# Altium integrated library Texas Instruments Interface 1394.IntLib: 47 symbols (part 7 of 17)
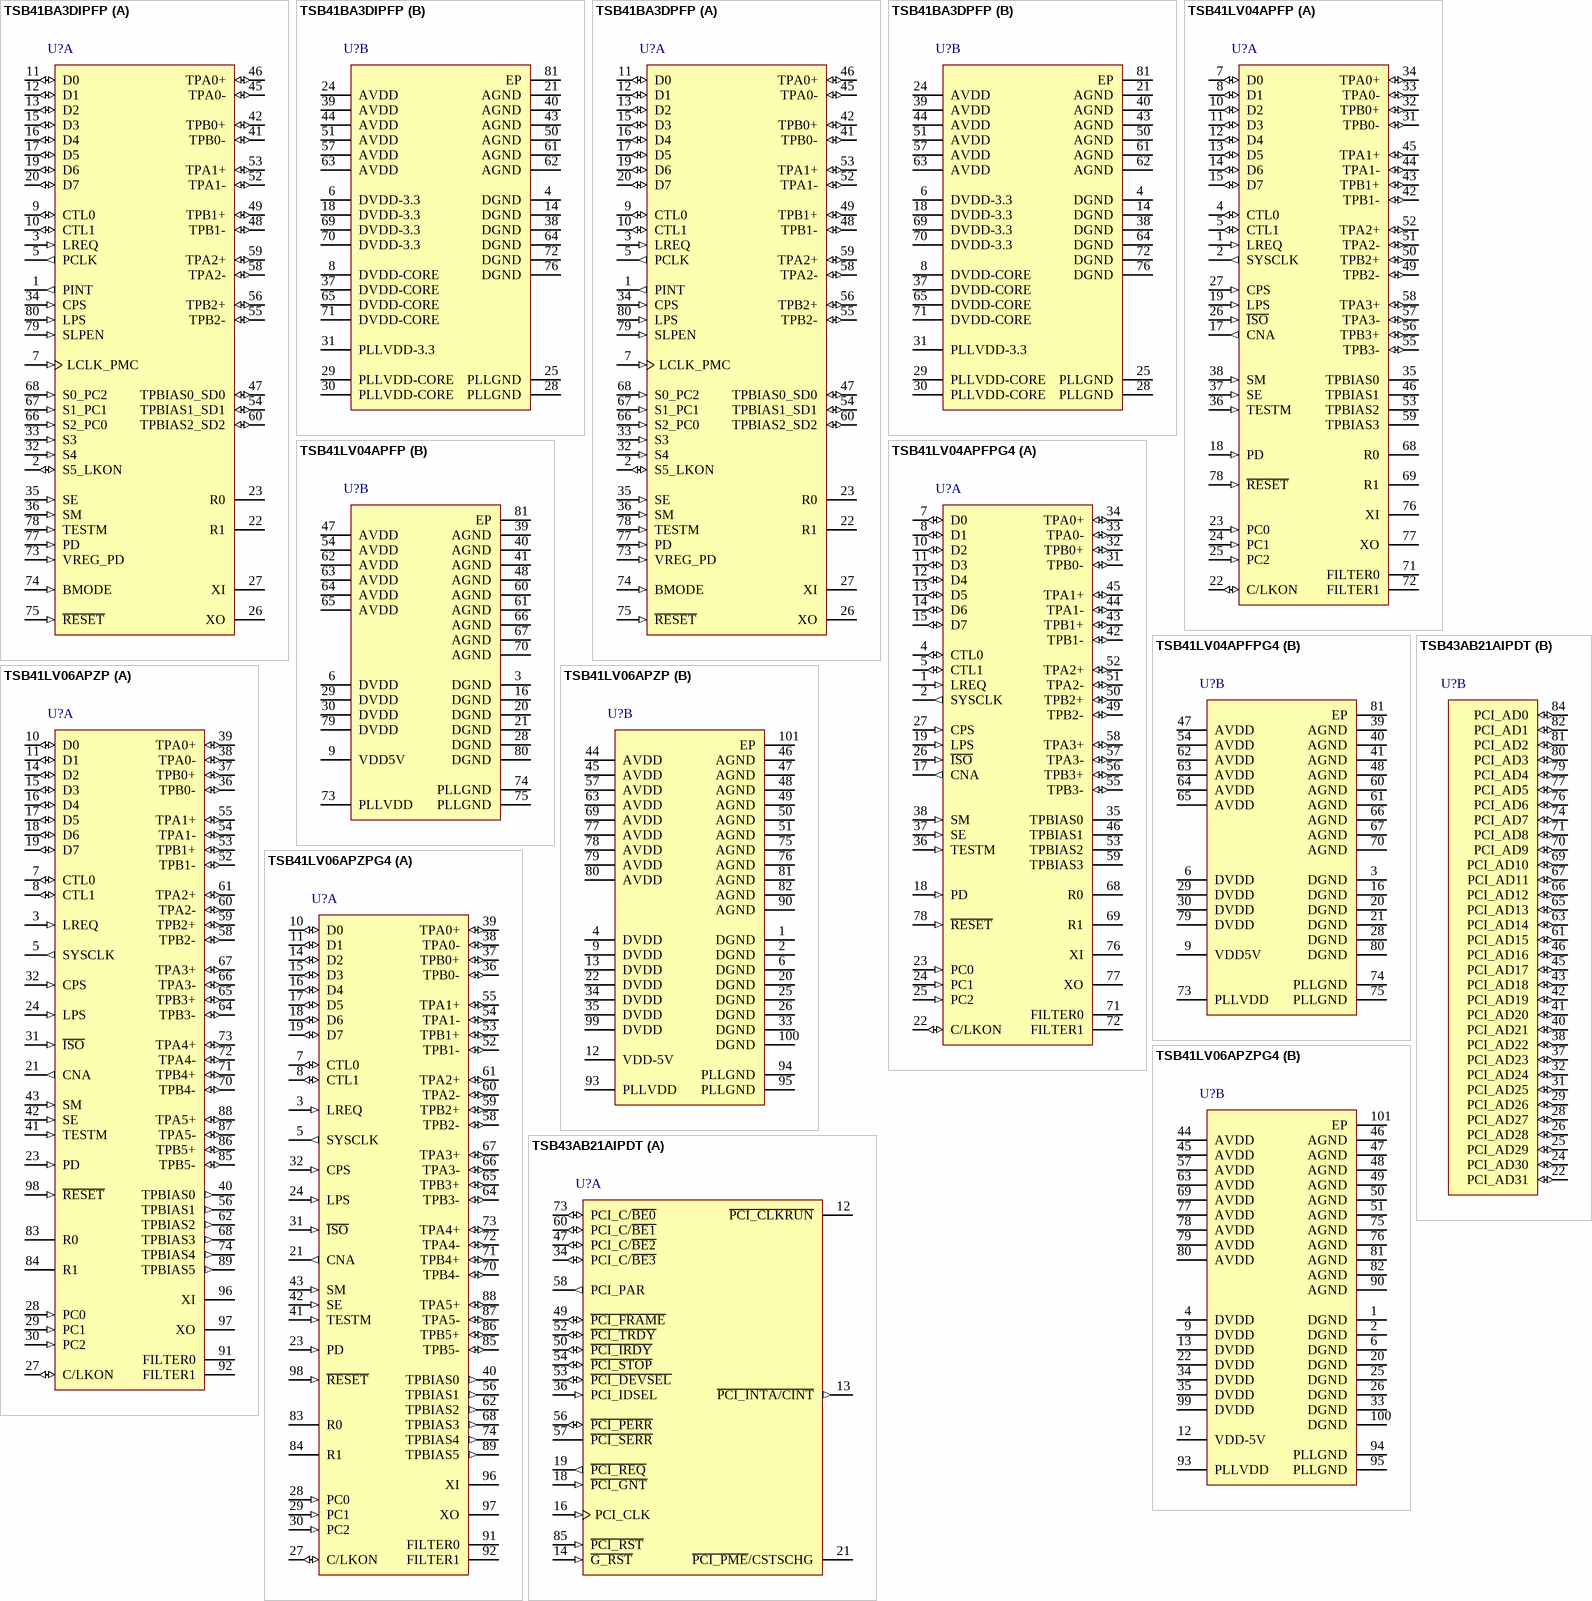
[diagram p17: symbols TSB41BA3DIPFP to TSB43AB21AIPDT]

## TSB41LV06APZP
designator U?
400 Mbps IEEE 1394a Six-Port Cable Transceiver / Arbiter, 3.3V, 100-Pin HTQFP (PZP), Green (RoHS & no Sb/Br); PartNumber: TSB41LV06APZP; Manufacturer: Texas Instruments; SubFamily: 1394 Physical Layer Controller; Speed(Max)(Mbps): 400; Ports: 6; Supply Voltage(s)(V): 3.3; 1394: True; Rating: Catalog; DatasheetVersion: SLLS363A; PackageVersion: revC, Sep-2011; PackageReference: PZP100-4700X4700TP; PackageDescription: 100-Pin Plastic Quad Flat Pack PowerPAD; Mounting Technology: Surface Mount; Eco-Plan: Green (RoHS & no Sb/Br); 1394a: True; Code_JEDEC: MS-026; ComponentLink1Description: Datasheet; ComponentLink1URL: http://www.ti.com/general/docs/lit/getliterature.tsp?genericPartNumber=TSB41LV06A&fileType=pdf; ComponentLink2Description: Package Specification; ComponentLink2URL: http://www.ti.com/litv/pdf/mpqf053b
footprint PZP100-4700X4700TP_N (Thin QFP, 100-Leads, Body 14x14mm, Pitch 0.5mm, Thermal Pad 5.2x5.2mm, IPC Medium Density)
footprint PZP100-4700X4700TP_L (Thin QFP, 100-Leads, Body 14x14mm, Pitch 0.5mm, Thermal Pad 5.2x5.2mm, IPC High Density)
footprint PZP100-4700X4700TP_M (Thin QFP, 100-Leads, Body 14x14mm, Pitch 0.5mm, Thermal Pad 5.2x5.2mm, IPC Low Density)
part A pins: 3 LREQ (in) "LLC request input. The LLC uses this input to initiate a service request to the TSB41LV06A. Bus holder is built into this terminal.", 5 SYSCLK (out) "System clock output. Provides a 49.152 MHz clock signal, synchronized with data transfers, to the LLC.", 7 CTL0 (io) "Control I/Os. These bidirectional signals control communication between the TSB41LV06 and the LLC. Bus holders are built into these terminals.", 8 CTL1 (io) "Control I/Os. These bidirectional signals control communication between the TSB41LV06 and the LLC. Bus holders are built into these terminals.", 10 D0 (io) "Data I/Os. These are bidirectional data signals between the TSB41LV06A and the LLC. Bus holders are built into these terminals.", 11 D1 (io) "Data I/Os. These are bidirectional data signals between the TSB41LV06A and the LLC. Bus holders are built into these terminals.", 14 D2 (io) "Data I/Os. These are bidirectional data signals between the TSB41LV06A and the LLC. Bus holders are built into these terminals.", 15 D3 (io) "Data I/Os. These are bidirectional data signals between the TSB41LV06A and the LLC. Bus holders are built into these terminals.", 16 D4 (io) "Data I/Os. These are bidirectional data signals between the TSB41LV06A and the LLC. Bus holders are built into these terminals.", 17 D5 (io) "Data I/Os. These are bidirectional data signals between the TSB41LV06A and the LLC. Bus holders are built into these terminals.", 18 D6 (io) "Data I/Os. These are bidirectional data signals between the TSB41LV06A and the LLC. Bus holders are built into these terminals.", 19 D7 (io) "Data I/Os. These are bidirectional data signals between the TSB41LV06A and the LLC. Bus holders are built into these terminals.", 21 CNA (out) "Cable not active output. This terminal is asserted high when there are no ports receiving incoming bias voltage.", 23 PD (in) "Power-down input.Digital circuit power terminals. [see datasheet]", 24 LPS (in) "Link power status input. Digital circuit power terminals. [see datasheet]", 27 C/LKON (io) "Bus manager contender programming input and link-on output. Digital circuit power terminals. [see datasheet]", 28 PC0 (in) "Power class programming inputs. On hardware reset, these inputs set the default value of the power-class indicated during self-ID. Programmed is done by tying the terminals high or low. Refer to Table 9 for encoding.", 29 PC1 (in) "Power class programming inputs. On hardware reset, these inputs set the default value of the power-class indicated during self-ID. Programmed is done by tying the terminals high or low. Refer to Table 9 for encoding.", 30 PC2 (in) "Power class programming inputs. On hardware reset, these inputs set the default value of the power-class indicated during self-ID. Programmed is done by tying the terminals high or low. Refer to Table 9 for encoding.", 31 ~{ISO} (in) "Link interface isolation control input. Digital circuit power terminals. [see datasheet]", 32 CPS (in) "Cable power status input. Digital circuit power terminals. [see datasheet]", 36 TPB0- (io) "Twisted-pair cable B differential signal terminals. Digital circuit power terminals. [see datasheet]", 37 TPB0+ (io) "Twisted-pair cable B differential signal terminals.[see datasheet]", 38 TPA0- (io) "Twisted-pair cable A differential signal terminals.[see datasheet]", 39 TPA0+ (io) "Twisted-pair cable A differential signal terminals.[see datasheet]", 40 TPBIAS0 (out) "Twisted-pair bias output. [see datasheet]", 41 TESTM (in) "Test control input. This input is used in manufacturing test of the TSB41LV06A. For normal use this terminal should be tied to VDD.", 42 SE (in) "Test control input.This input is used in manufacturing test of the TSB41LV06A. For normal use this terminal should be tied to GND through a 1-k ohm pulldown resistor.", 43 SM (in) "Test control input. This input is used in manufacturing test of the TSB41LV06A. For normal use this terminal should be tied to GND.", 52 TPB1- (io) "Twisted-pair cable B differential signal terminals.[see datasheet]", 53 TPB1+ (io) "Twisted-pair cable B differential signal terminals. [see datasheet]", 54 TPA1- (io) "Twisted-pair cable A differential signal terminals.[see datasheet]", 55 TPA1+ (io) "Twisted-pair cable A differential signal terminals.[see datasheet]", 56 TPBIAS1 (out) "Twisted-pair bias output.[see datasheet]", 58 TPB2- (io) "Twisted-pair cable B differential signal terminals.[see datasheet]", 59 TPB2+ (io) "Twisted-pair cable B differential signal terminals.[see datasheet]", 60 TPA2- (io) "Twisted-pair cable A differential signal terminals.[see datasheet]", 61 TPA2+ (io) "Twisted-pair cable A differential signal terminals.[see datasheet]", 62 TPBIAS2 (out) "Twisted-pair bias output.[see datasheet]", 64 TPB3- (io) "Twisted-pair cable B differential signal terminals.[see datasheet]", 65 TPB3+ (io) "Twisted-pair cable B differential signal terminals.[see datasheet]", 66 TPA3- (io) "Twisted-pair cable A differential signal terminals.[see datasheet]", 67 TPA3+ (io) "Twisted-pair cable A differential signal terminals.[see datasheet]", 68 TPBIAS3 (out) "Twisted-pair bias output. [see datasheet]", 70 TPB4- (io) "Twisted-pair cable B differential signal terminals.[see datasheet]", 71 TPB4+ (io) "Twisted-pair cable B differential signal terminals. [see datasheet]", 72 TPA4- (io) "Twisted-pair cable A differential signal terminals.[see datasheet]", 73 TPA4+ (io) "Twisted-pair cable A differential signal terminals.[see datasheet]", 74 TPBIAS4 (out) "Twisted-pair bias output.[see datasheet]", 83 R0 "Current setting resistor terminals.[see datasheet]", 84 R1 "Current setting resistor terminals.[see datasheet]", 85 TPB5- (io) "Twisted-pair cable B differential signal terminals.[see datasheet]", 86 TPB5+ (io) "Twisted-pair cable B differential signal terminals. [see datasheet]", 87 TPA5- (io) "Twisted-pair cable A differential signal terminals.[see datasheet]", 88 TPA5+ (io) "Twisted-pair cable A differential signal terminals.[see datasheet]", 89 TPBIAS5 (out) "Twisted-pair bias output.[see datasheet]", 91 FILTER0 "PLL filter terminals. [see datasheet]", 92 FILTER1 "PLL filter terminals. [see datasheet]", 96 XI "Crystal oscillator inputs. [see datasheet]", 97 XO "Crystal oscillator outputs. These terminals connect to a 24.576 MHz parallel resonant fundamental mode crystal.[see datasheet]", 98 ~{RESET} (in) "Logic reset input. Asserting this terminal low resets the internal logic. [see datasheet]"
part B pins: 1 DGND (power) "Digital circuit ground terminals.These terminals should be tied together to the low impedance circuit board ground plane.", 2 DGND (power) "Digital circuit ground terminals.These terminals should be tied together to the low impedance circuit board ground plane.", 4 DVDD (power) "Digital circuit power terminals.Digital circuit power terminals. [see datasheet]", 6 DGND (power) "Digital circuit ground terminals. These terminals should be tied together to the low impedance circuit board ground plane.", 9 DVDD (power) "Digital circuit power terminals.Digital circuit power terminals. [see datasheet]", 12 VDD-5V (power) "5-V VDD terminal.Digital circuit power terminals. [see datasheet]", 13 DVDD (power) "Digital circuit power terminalsDigital circuit power terminals. [see datasheet]", 20 DGND (power) "Digital circuit ground terminals. These terminals should be tied together to the low impedance circuit board ground plane.", 22 DVDD (power) "Digital circuit power terminals. Digital circuit power terminals. [see datasheet]", 25 DGND (power) "Digital circuit ground terminals. These terminals should be tied together to the low impedance circuit board ground plane.", 26 DGND (power) "Digital circuit ground terminals. These terminals should be tied together to the low impedance circuit board ground plane.", 33 DGND (power) "Digital circuit ground terminals. These terminals should be tied together to the low impedance circuit board ground plane.", 34 DVDD (power) "Digital circuit power terminals. Digital circuit power terminals. [see datasheet]", 35 DVDD (power) "Digital circuit power terminals.Digital circuit power terminals. [see datasheet]", 44 AVDD (power) "Analog circuit power terminals.[see datasheet]", 45 AVDD (power) "Analog circuit power terminals.[see datasheet].", 46 AGND (power) "Analog circuit ground terminals. These terminals should be tied together to the low impedance circuit board ground plane.", 47 AGND (power) "Analog circuit ground terminals. These terminals should be tied together to the low impedance circuit board ground plane.", 48 AGND (power) "Analog circuit ground terminals. These terminals should be tied together to the low impedance circuit board ground plane.", 49 AGND (power) "Analog circuit ground terminals. These terminals should be tied together to the low impedance circuit board ground plane.", 50 AGND (power) "Analog circuit ground terminals. These terminals should be tied together to the low impedance circuit board ground plane.", 51 AGND (power) "Analog circuit ground terminals. These terminals should be tied together to the low impedance circuit board ground plane.", 57 AVDD (power) "Analog circuit power terminals.[see datasheet]", 63 AVDD (power) "Analog circuit power terminals.[see datasheet]", 69 AVDD (power) "Analog circuit power terminals.[see datasheet]", 75 AGND (power) "Analog circuit ground terminals. These terminals should be tied together to the low impedance circuit board ground plane.", 76 AGND (power) "Analog circuit ground terminals. These terminals should be tied together to the low impedance circuit board ground plane.", 77 AVDD (power) "Analog circuit power terminals.[see datasheet]", 78 AVDD (power) "Analog circuit power terminals. [see datasheet]", 79 AVDD (power) "Analog circuit power terminals.[see datasheet]", 80 AVDD (power) "Analog circuit power terminals. [see datasheet]", 81 AGND (power) "Analog circuit ground terminals. These terminals should be tied together to the low impedance circuit board ground plane.", 82 AGND (power) "Analog circuit ground terminals. These terminals should be tied together to the low impedance circuit board ground plane.", 90 AGND (power) "Analog circuit ground terminals. These terminals should be tied together to the low impedance circuit board ground plane.", 93 PLLVDD (power) "PLL circuit power terminals. [see datasheet]", 94 PLLGND (power) "PLL circuit ground terminals. These terminals should be tied together to the low impedance circuit board ground plane.", 95 PLLGND (power) "PLL circuit ground terminals. These terminals should be tied together to the low impedance circuit board ground plane.", 99 DVDD (power) "Digital circuit power terminals.[see datasheet]", 100 DGND (power) "Digital circuit ground terminals. These terminals should be tied together to the low impedance circuit board ground plane.", 101 EP (power) "Exposed Thermal Pad."

## TSB41LV06APZPG4
designator U?
400 Mbps IEEE 1394a Six-Port Cable Transceiver / Arbiter, 3.3V, 100-Pin HTQFP (PZP), Green (RoHS & no Sb/Br); PartNumber: TSB41LV06APZPG4; Manufacturer: Texas Instruments; SubFamily: 1394 Physical Layer Controller; Speed(Max)(Mbps): 400; Ports: 6; Supply Voltage(s)(V): 3.3; 1394: True; Rating: Catalog; DatasheetVersion: SLLS363A; PackageVersion: revC, Sep-2011; PackageReference: PZP100-4700X4700TP; PackageDescription: 100-Pin Plastic Quad Flat Pack PowerPAD; Mounting Technology: Surface Mount; Eco-Plan: Green (RoHS & no Sb/Br); 1394a: True; Code_JEDEC: MS-026; ComponentLink1Description: Datasheet; ComponentLink1URL: http://www.ti.com/general/docs/lit/getliterature.tsp?genericPartNumber=TSB41LV06A&fileType=pdf; ComponentLink2Description: Package Specification; ComponentLink2URL: http://www.ti.com/litv/pdf/mpqf053b
footprint PZP100-4700X4700TP_N (Thin QFP, 100-Leads, Body 14x14mm, Pitch 0.5mm, Thermal Pad 5.2x5.2mm, IPC Medium Density)
footprint PZP100-4700X4700TP_L (Thin QFP, 100-Leads, Body 14x14mm, Pitch 0.5mm, Thermal Pad 5.2x5.2mm, IPC High Density)
footprint PZP100-4700X4700TP_M (Thin QFP, 100-Leads, Body 14x14mm, Pitch 0.5mm, Thermal Pad 5.2x5.2mm, IPC Low Density)
part A pins: 3 LREQ (in) "LLC request input. The LLC uses this input to initiate a service request to the TSB41LV06A. Bus holder is built into this terminal.", 5 SYSCLK (out) "System clock output. Provides a 49.152 MHz clock signal, synchronized with data transfers, to the LLC.", 7 CTL0 (io) "Control I/Os. These bidirectional signals control communication between the TSB41LV06 and the LLC. Bus holders are built into these terminals.", 8 CTL1 (io) "Control I/Os. These bidirectional signals control communication between the TSB41LV06 and the LLC. Bus holders are built into these terminals.", 10 D0 (io) "Data I/Os. These are bidirectional data signals between the TSB41LV06A and the LLC. Bus holders are built into these terminals.", 11 D1 (io) "Data I/Os. These are bidirectional data signals between the TSB41LV06A and the LLC. Bus holders are built into these terminals.", 14 D2 (io) "Data I/Os. These are bidirectional data signals between the TSB41LV06A and the LLC. Bus holders are built into these terminals.", 15 D3 (io) "Data I/Os. These are bidirectional data signals between the TSB41LV06A and the LLC. Bus holders are built into these terminals.", 16 D4 (io) "Data I/Os. These are bidirectional data signals between the TSB41LV06A and the LLC. Bus holders are built into these terminals.", 17 D5 (io) "Data I/Os. These are bidirectional data signals between the TSB41LV06A and the LLC. Bus holders are built into these terminals.", 18 D6 (io) "Data I/Os. These are bidirectional data signals between the TSB41LV06A and the LLC. Bus holders are built into these terminals.", 19 D7 (io) "Data I/Os. These are bidirectional data signals between the TSB41LV06A and the LLC. Bus holders are built into these terminals.", 21 CNA (out) "Cable not active output. This terminal is asserted high when there are no ports receiving incoming bias voltage.", 23 PD (in) "Power-down input.Digital circuit power terminals. [see datasheet]", 24 LPS (in) "Link power status input. Digital circuit power terminals. [see datasheet]", 27 C/LKON (io) "Bus manager contender programming input and link-on output. Digital circuit power terminals. [see datasheet]", 28 PC0 (in) "Power class programming inputs. On hardware reset, these inputs set the default value of the power-class indicated during self-ID. Programmed is done by tying the terminals high or low. Refer to Table 9 for encoding.", 29 PC1 (in) "Power class programming inputs. On hardware reset, these inputs set the default value of the power-class indicated during self-ID. Programmed is done by tying the terminals high or low. Refer to Table 9 for encoding.", 30 PC2 (in) "Power class programming inputs. On hardware reset, these inputs set the default value of the power-class indicated during self-ID. Programmed is done by tying the terminals high or low. Refer to Table 9 for encoding.", 31 ~{ISO} (in) "Link interface isolation control input. Digital circuit power terminals. [see datasheet]", 32 CPS (in) "Cable power status input. Digital circuit power terminals. [see datasheet]", 36 TPB0- (io) "Twisted-pair cable B differential signal terminals. Digital circuit power terminals. [see datasheet]", 37 TPB0+ (io) "Twisted-pair cable B differential signal terminals.[see datasheet]", 38 TPA0- (io) "Twisted-pair cable A differential signal terminals.[see datasheet]", 39 TPA0+ (io) "Twisted-pair cable A differential signal terminals.[see datasheet]", 40 TPBIAS0 (out) "Twisted-pair bias output. [see datasheet]", 41 TESTM (in) "Test control input. This input is used in manufacturing test of the TSB41LV06A. For normal use this terminal should be tied to VDD.", 42 SE (in) "Test control input.This input is used in manufacturing test of the TSB41LV06A. For normal use this terminal should be tied to GND through a 1-k ohm pulldown resistor.", 43 SM (in) "Test control input. This input is used in manufacturing test of the TSB41LV06A. For normal use this terminal should be tied to GND.", 52 TPB1- (io) "Twisted-pair cable B differential signal terminals.[see datasheet]", 53 TPB1+ (io) "Twisted-pair cable B differential signal terminals. [see datasheet]", 54 TPA1- (io) "Twisted-pair cable A differential signal terminals.[see datasheet]", 55 TPA1+ (io) "Twisted-pair cable A differential signal terminals.[see datasheet]", 56 TPBIAS1 (out) "Twisted-pair bias output.[see datasheet]", 58 TPB2- (io) "Twisted-pair cable B differential signal terminals.[see datasheet]", 59 TPB2+ (io) "Twisted-pair cable B differential signal terminals.[see datasheet]", 60 TPA2- (io) "Twisted-pair cable A differential signal terminals.[see datasheet]", 61 TPA2+ (io) "Twisted-pair cable A differential signal terminals.[see datasheet]", 62 TPBIAS2 (out) "Twisted-pair bias output.[see datasheet]", 64 TPB3- (io) "Twisted-pair cable B differential signal terminals.[see datasheet]", 65 TPB3+ (io) "Twisted-pair cable B differential signal terminals.[see datasheet]", 66 TPA3- (io) "Twisted-pair cable A differential signal terminals.[see datasheet]", 67 TPA3+ (io) "Twisted-pair cable A differential signal terminals.[see datasheet]", 68 TPBIAS3 (out) "Twisted-pair bias output. [see datasheet]", 70 TPB4- (io) "Twisted-pair cable B differential signal terminals.[see datasheet]", 71 TPB4+ (io) "Twisted-pair cable B differential signal terminals. [see datasheet]", 72 TPA4- (io) "Twisted-pair cable A differential signal terminals.[see datasheet]", 73 TPA4+ (io) "Twisted-pair cable A differential signal terminals.[see datasheet]", 74 TPBIAS4 (out) "Twisted-pair bias output.[see datasheet]", 83 R0 "Current setting resistor terminals.[see datasheet]", 84 R1 "Current setting resistor terminals.[see datasheet]", 85 TPB5- (io) "Twisted-pair cable B differential signal terminals.[see datasheet]", 86 TPB5+ (io) "Twisted-pair cable B differential signal terminals. [see datasheet]", 87 TPA5- (io) "Twisted-pair cable A differential signal terminals.[see datasheet]", 88 TPA5+ (io) "Twisted-pair cable A differential signal terminals.[see datasheet]", 89 TPBIAS5 (out) "Twisted-pair bias output.[see datasheet]", 91 FILTER0 "PLL filter terminals. [see datasheet]", 92 FILTER1 "PLL filter terminals. [see datasheet]", 96 XI "Crystal oscillator inputs. [see datasheet]", 97 XO "Crystal oscillator outputs. These terminals connect to a 24.576 MHz parallel resonant fundamental mode crystal.[see datasheet]", 98 ~{RESET} (in) "Logic reset input. Asserting this terminal low resets the internal logic. [see datasheet]"
part B pins: 1 DGND (power) "Digital circuit ground terminals.These terminals should be tied together to the low impedance circuit board ground plane.", 2 DGND (power) "Digital circuit ground terminals.These terminals should be tied together to the low impedance circuit board ground plane.", 4 DVDD (power) "Digital circuit power terminals.Digital circuit power terminals. [see datasheet]", 6 DGND (power) "Digital circuit ground terminals. These terminals should be tied together to the low impedance circuit board ground plane.", 9 DVDD (power) "Digital circuit power terminals.Digital circuit power terminals. [see datasheet]", 12 VDD-5V (power) "5-V VDD terminal.Digital circuit power terminals. [see datasheet]", 13 DVDD (power) "Digital circuit power terminalsDigital circuit power terminals. [see datasheet]", 20 DGND (power) "Digital circuit ground terminals. These terminals should be tied together to the low impedance circuit board ground plane.", 22 DVDD (power) "Digital circuit power terminals. Digital circuit power terminals. [see datasheet]", 25 DGND (power) "Digital circuit ground terminals. These terminals should be tied together to the low impedance circuit board ground plane.", 26 DGND (power) "Digital circuit ground terminals. These terminals should be tied together to the low impedance circuit board ground plane.", 33 DGND (power) "Digital circuit ground terminals. These terminals should be tied together to the low impedance circuit board ground plane.", 34 DVDD (power) "Digital circuit power terminals. Digital circuit power terminals. [see datasheet]", 35 DVDD (power) "Digital circuit power terminals.Digital circuit power terminals. [see datasheet]", 44 AVDD (power) "Analog circuit power terminals.[see datasheet]", 45 AVDD (power) "Analog circuit power terminals.[see datasheet].", 46 AGND (power) "Analog circuit ground terminals. These terminals should be tied together to the low impedance circuit board ground plane.", 47 AGND (power) "Analog circuit ground terminals. These terminals should be tied together to the low impedance circuit board ground plane.", 48 AGND (power) "Analog circuit ground terminals. These terminals should be tied together to the low impedance circuit board ground plane.", 49 AGND (power) "Analog circuit ground terminals. These terminals should be tied together to the low impedance circuit board ground plane.", 50 AGND (power) "Analog circuit ground terminals. These terminals should be tied together to the low impedance circuit board ground plane.", 51 AGND (power) "Analog circuit ground terminals. These terminals should be tied together to the low impedance circuit board ground plane.", 57 AVDD (power) "Analog circuit power terminals.[see datasheet]", 63 AVDD (power) "Analog circuit power terminals.[see datasheet]", 69 AVDD (power) "Analog circuit power terminals.[see datasheet]", 75 AGND (power) "Analog circuit ground terminals. These terminals should be tied together to the low impedance circuit board ground plane.", 76 AGND (power) "Analog circuit ground terminals. These terminals should be tied together to the low impedance circuit board ground plane.", 77 AVDD (power) "Analog circuit power terminals.[see datasheet]", 78 AVDD (power) "Analog circuit power terminals. [see datasheet]", 79 AVDD (power) "Analog circuit power terminals.[see datasheet]", 80 AVDD (power) "Analog circuit power terminals. [see datasheet]", 81 AGND (power) "Analog circuit ground terminals. These terminals should be tied together to the low impedance circuit board ground plane.", 82 AGND (power) "Analog circuit ground terminals. These terminals should be tied together to the low impedance circuit board ground plane.", 90 AGND (power) "Analog circuit ground terminals. These terminals should be tied together to the low impedance circuit board ground plane.", 93 PLLVDD (power) "PLL circuit power terminals. [see datasheet]", 94 PLLGND (power) "PLL circuit ground terminals. These terminals should be tied together to the low impedance circuit board ground plane.", 95 PLLGND (power) "PLL circuit ground terminals. These terminals should be tied together to the low impedance circuit board ground plane.", 99 DVDD (power) "Digital circuit power terminals.[see datasheet]", 100 DGND (power) "Digital circuit ground terminals. These terminals should be tied together to the low impedance circuit board ground plane.", 101 EP (power) "Exposed Thermal Pad."

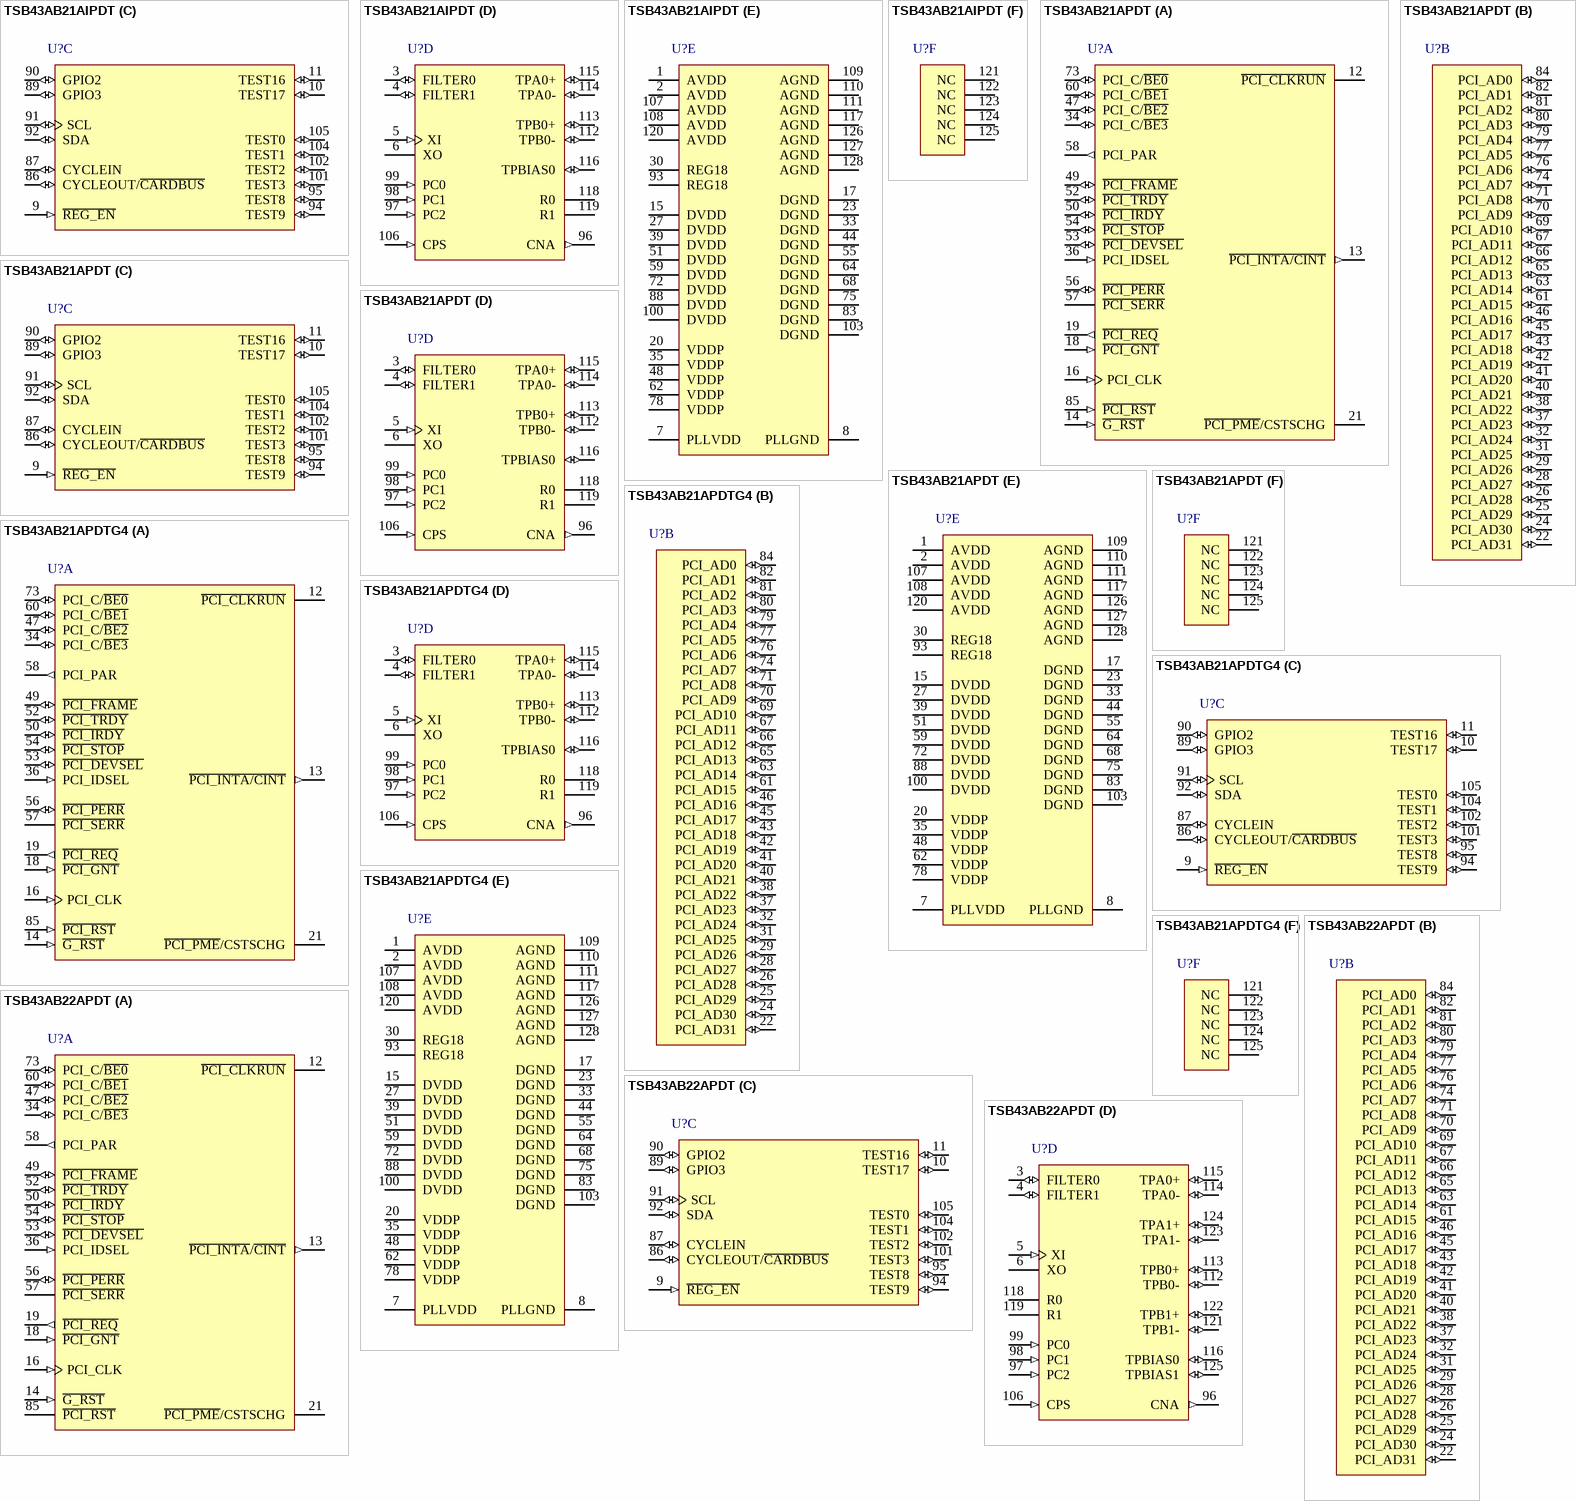
[diagram p4: symbols TSB43AB21AIPDT to TSB43AB22APDT]

## TSB43AB21AIPDT
designator U?
Integrated 1394a-2000 OHCI PHY/Link-Layer Controller, -40 to 85 degC, 128-Pin TQFP (PDT); PartNumber: TSB43AB21AIPDT; Manufacturer: Texas Instruments; SubFamily: 1394 Integrated Device; Speed(Max)(Mbps): 400; FIFO(kb): 9; 1394a: TRUE; Rating: Catalog; DatasheetVersion: SLLS521A; PackageVersion: revA, Nov-1995; PackageReference: PDT128; PackageDescription: 128-Pin Plastic Quad Flat Pack, 14 x 14 mm Body, 0.4 mm Pitch; Mounting Technology: Surface Mount; Operating Temperature Range(C): 0 to 70; ComponentLink1Description: Datasheet; ComponentLink1URL: http://www.ti.com/general/docs/lit/getliterature.tsp?genericPartNumber=TSB43AB21A&fileType=pdf; ComponentLink2Description: Package Specification; ComponentLink2URL: http://www.ti.com/litv/pdf/mpqf013
footprint TI-PDT128_N (Thin QFP, 128-Leads, Body 14x14mm, Pitch 0.4mm, IPC Medium Density)
footprint TI-PDT128_L (Thin QFP, 128-Leads, Body 14x14mm, Pitch 0.4mm, IPC High Density)
footprint TI-PDT128_M (Thin QFP, 128-Leads, Body 14x14mm, Pitch 0.4mm, IPC Low Density)
part A pins: 12 ~{PCI_CLKRUN} (oc) "Clock run. This terminal provides clock control through the C\L\K\R\U\N\ protocol. [see datasheet]", 13 ~{PCI_INTA/CINT} (out) "Interrupt signal. This output indicates interrupts from the TSB43AB21A device to the host. [see datasheet]", 14 ~{G_RST} (in) "Global power reset. This reset brings all of the TSB43AB21A internal registers to their default states, including those registers not reset by P\C\I\_\R\S\T\. [see datasheet]", 16 PCI_CLK (in) "PCI bus clock. Provides timing for all transactions on the PCI bus. All PCI signals are sampled at the rising edge of PCI_CLK.", 18 ~{PCI_GNT} (in) "PCI bus grant. This signal is driven by the PCI bus arbiter to grant the TSB43AB21A device access to the PCI bus after the current data transaction has completed. [see datasheet]", 19 ~{PCI_REQ} (out) "PCI bus request. Asserted by the TSB43AB21A device to request access to the bus as an initiator. [see datasheet]", 21 ~{PCI_PME}/CSTSCHG (oc) "Power management event or card status change. This terminal indicates wake events to the host. [see datasheet]", 34 PCI_C/~{BE3} (io) "PCI bus commands and byte enables. The command and byte enable signals are multiplexed on the same PCI terminals. [see datasheet]", 36 PCI_IDSEL (in) "Initialization device select. PCI_IDSEL selects the TSB43AB21A device during configuration space accesses. [see datasheet]", 47 PCI_C/~{BE2} (io) "PCI bus commands and byte enables. The command and byte enable signals are multiplexed on the same PCI terminals. [see datasheet]", 49 ~{PCI_FRAME} (io) "PCI cycle frame. This signal is driven by the initiator of a PCI bus cycle. [see datasheet]", 50 ~{PCI_IRDY} (io) "PCI initiator ready. P\C\I\_\I\R\D\Y\ indicates the ability of the PCI bus initiator to complete the current data phase of the transaction. [see datasheet]", 52 ~{PCI_TRDY} (io) "PCI target ready. PCI_TRDY indicates the ability of the PCI bus target to complete the current data phase of the transaction. [see datasheet]", 53 ~{PCI_DEVSEL} (io) "PCI device select. The TSB43AB21A device asserts this signal to claim a PCI cycle as the target device. [see datasheet]", 54 ~{PCI_STOP} (io) "PCI cycle stop signal. This signal is driven by a PCI target to request the initiator to stop the current PCI bus transaction. [see datasheet]", 56 ~{PCI_PERR} (io) "PCI parity error indicator. [see datasheet]", 57 ~{PCI_SERR} (oc) "PCI system error. When bit 8 (SERR_ENB) in the command register at offset 04h in the PCI configuration space (see Section 3. [see datasheet]", 58 PCI_PAR (out) "PCI parity. In all PCI bus read and write cycles, the TSB43AB21A device calculates even parity across the PCI_AD and PCI_C/BE buses. [see datasheet]", 60 PCI_C/~{BE1} (io) "PCI bus commands and byte enables. The command and byte enable signals are multiplexed on the same PCI terminals. [see datasheet]", 73 PCI_C/~{BE0} (io) "PCI bus commands and byte enables. The command and byte enable signals are multiplexed on the same PCI terminals. [see datasheet]", 85 ~{PCI_RST} (in) "PCI reset. [see datasheet]"
part B pins: 22 PCI_AD31 (io) "PCI address/data bus. These signals make up the multiplexed PCI address and data bus on the PCI interface. [see datasheet]", 24 PCI_AD30 (io) "PCI address/data bus. These signals make up the multiplexed PCI address and data bus on the PCI interface. [see datasheet]", 25 PCI_AD29 (io) "PCI address/data bus. These signals make up the multiplexed PCI address and data bus on the PCI interface. [see datasheet]", 26 PCI_AD28 (io) "PCI address/data bus. These signals make up the multiplexed PCI address and data bus on the PCI interface. [see datasheet]", 28 PCI_AD27 (io) "PCI address/data bus. These signals make up the multiplexed PCI address and data bus on the PCI interface. [see datasheet]", 29 PCI_AD26 (io) "PCI address/data bus. These signals make up the multiplexed PCI address and data bus on the PCI interface. [see datasheet]", 31 PCI_AD25 (io) "PCI address/data bus. These signals make up the multiplexed PCI address and data bus on the PCI interface. [see datasheet]", 32 PCI_AD24 (io) "PCI address/data bus. These signals make up the multiplexed PCI address and data bus on the PCI interface. [see datasheet]", 37 PCI_AD23 (io) "PCI address/data bus. These signals make up the multiplexed PCI address and data bus on the PCI interface. [see datasheet]", 38 PCI_AD22 (io) "PCI address/data bus. These signals make up the multiplexed PCI address and data bus on the PCI interface. [see datasheet]", 40 PCI_AD21 (io) "PCI address/data bus. These signals make up the multiplexed PCI address and data bus on the PCI interface. [see datasheet]", 41 PCI_AD20 (io) "PCI address/data bus. These signals make up the multiplexed PCI address and data bus on the PCI interface. [see datasheet]", 42 PCI_AD19 (io) "PCI address/data bus. These signals make up the multiplexed PCI address and data bus on the PCI interface. [see datasheet]", 43 PCI_AD18 (io) "PCI address/data bus. These signals make up the multiplexed PCI address and data bus on the PCI interface. [see datasheet]", 45 PCI_AD17 (io) "PCI address/data bus. These signals make up the multiplexed PCI address and data bus on the PCI interface. [see datasheet]", 46 PCI_AD16 (io) "PCI address/data bus. These signals make up the multiplexed PCI address and data bus on the PCI interface. [see datasheet]", 61 PCI_AD15 (io) "PCI address/data bus. These signals make up the multiplexed PCI address and data bus on the PCI interface. [see datasheet]", 63 PCI_AD14 (io) "PCI address/data bus. These signals make up the multiplexed PCI address and data bus on the PCI interface. [see datasheet]", 65 PCI_AD13 (io) "PCI address/data bus. These signals make up the multiplexed PCI address and data bus on the PCI interface. [see datasheet]", 66 PCI_AD12 (io) "PCI address/data bus. These signals make up the multiplexed PCI address and data bus on the PCI interface. [see datasheet]", 67 PCI_AD11 (io) "PCI address/data bus. These signals make up the multiplexed PCI address and data bus on the PCI interface. [see datasheet]", 69 PCI_AD10 (io) "PCI address/data bus. These signals make up the multiplexed PCI address and data bus on the PCI interface. [see datasheet]", 70 PCI_AD9 (io) "PCI address/data bus. These signals make up the multiplexed PCI address and data bus on the PCI interface. [see datasheet]", 71 PCI_AD8 (io) "PCI address/data bus. These signals make up the multiplexed PCI address and data bus on the PCI interface. [see datasheet]", 74 PCI_AD7 (io) "PCI address/data bus. These signals make up the multiplexed PCI address and data bus on the PCI interface. [see datasheet]", 76 PCI_AD6 (io) "PCI address/data bus. These signals make up the multiplexed PCI address and data bus on the PCI interface. [see datasheet]", 77 PCI_AD5 (io) "PCI address/data bus. These signals make up the multiplexed PCI address and data bus on the PCI interface. [see datasheet]", 79 PCI_AD4 (io) "PCI address/data bus. These signals make up the multiplexed PCI address and data bus on the PCI interface. [see datasheet]", 80 PCI_AD3 (io) "PCI address/data bus. These signals make up the multiplexed PCI address and data bus on the PCI interface. [see datasheet]", 81 PCI_AD2 (io) "PCI address/data bus. These signals make up the multiplexed PCI address and data bus on the PCI interface. [see datasheet]", 82 PCI_AD1 (io) "PCI address/data bus. These signals make up the multiplexed PCI address and data bus on the PCI interface. [see datasheet]", 84 PCI_AD0 (io) "PCI address/data bus. These signals make up the multiplexed PCI address and data bus on the PCI interface. [see datasheet]"
part C pins: 9 ~{REG_EN} (in) "Regulator enable. This terminal must be tied to ground to enable the internal voltage regulator. When using a single 3. [see datasheet]", 10 TEST17 (io) "Terminals TEST[9, 8, 3, 2, 1, 0] are used for factory test of the TSB43AB21A device and must be connected to ground for normal operation.Terminal TEST[17:16] must be pulled to VDD. [see datasheet]", 11 TEST16 (io) "Terminals TEST[9, 8, 3, 2, 1, 0] are used for factory test of the TSB43AB21A device and must be connected to ground for normal operation.Terminal TEST[17:16] must be pulled to VDD. [see datasheet]", 86 CYCLEOUT/~{CARDBUS} (io) "This terminal is sampled when G\_\R\S\T\ is asserted and is used to select between PC Card and non-PC Card implementations. [see datasheet]", 87 CYCLEIN (io) "The CYCLEIN terminal allows an external 8-kHz clock to be used as a cycle timer for synchronization with other system devices. [see datasheet]", 89 GPIO3 (io) "General-purpose I/O [3]. This terminal defaults as an input and if it is not implemented, it is recommended that it be pulled low to ground with a 220-ohm resistor.", 90 GPIO2 (io) "General-purpose I/O [2]. This terminal defaults as an input and if it is not implemented, it is recommended that it be pulled low to ground with a 220-ohm resistor.", 91 SCL (io) "Serial clock. This terminal provides the serial clock signaling and is implemented as open-drain. [see datasheet]", 92 SDA (io) "Serial data. At P\C\I\_\R\S\T\, the SDA signal is sampled to determine if a two-wire serial ROM is present. [see datasheet]", 94 TEST9 (io) "Terminals TEST[9, 8, 3, 2, 1, 0] are used for factory test of the TSB43AB21A device and must be connected to ground for normal operation.Terminal TEST[17:16] must be pulled to VDD. [see datasheet]", 95 TEST8 (io) "Terminals TEST[9, 8, 3, 2, 1, 0] are used for factory test of the TSB43AB21A device and must be connected to ground for normal operation.Terminal TEST[17:16] must be pulled to VDD. [see datasheet]", 101 TEST3 (io) "Terminals TEST[9, 8, 3, 2, 1, 0] are used for factory test of the TSB43AB21A device and must be connected to ground for normal operation.Terminal TEST[17:16] must be pulled to VDD. [see datasheet]", 102 TEST2 (io) "Terminals TEST[9, 8, 3, 2, 1, 0] are used for factory test of the TSB43AB21A device and must be connected to ground for normal operation.Terminal TEST[17:16] must be pulled to VDD. [see datasheet]", 104 TEST1 (io) "Terminals TEST[9, 8, 3, 2, 1, 0] are used for factory test of the TSB43AB21A device and must be connected to ground for normal operation.Terminal TEST[17:16] must be pulled to VDD. [see datasheet]", 105 TEST0 (io) "Terminals TEST[9, 8, 3, 2, 1, 0] are used for factory test of the TSB43AB21A device and must be connected to ground for normal operation.Terminal TEST[17:16] must be pulled to VDD. [see datasheet]"
part D pins: 3 FILTER0 (io) "PLL filter terminals. [see datasheet]", 4 FILTER1 (io) "PLL filter terminals. [see datasheet]", 5 XI (in) "Crystal oscillator inputs. These pins connect to a 24.576-MHz parallel resonant fundamental mode crystal. [see datasheet]", 6 XO "Crystal oscillator inputs. These pins connect to a 24.576-MHz parallel resonant fundamental mode crystal. [see datasheet]", 96 CNA (out) "Cable not active. This terminal is asserted high when the port is not receiving incoming bias voltage. [see datasheet]", 97 PC2 (in) "Power class programming inputs. On hardware reset, these inputs set the default value of the power class indicated during self-ID. [see datasheet]", 98 PC1 (in) "Power class programming inputs. On hardware reset, these inputs set the default value of the power class indicated during self-ID. [see datasheet]", 99 PC0 (in) "Power class programming inputs. On hardware reset, these inputs set the default value of the power class indicated during self-ID. [see datasheet]", 106 CPS (in) "Cable power status input. This terminal is normally connected to cable power through a 400-k ohm resistor. [see datasheet]", 112 TPB0- (io) "Twisted-pair cable B differential signal terminals. [see datasheet]", 113 TPB0+ (io) "Twisted-pair cable B differential signal terminals. [see datasheet]", 114 TPA0- (io) "Twisted-pair cable A differential signal terminals. [see datasheet]", 115 TPA0+ (io) "Twisted-pair cable A differential signal terminals. [see datasheet]", 116 TPBIAS0 (io) "Twisted-pair bias output. This provides the 1. [see datasheet]", 118 R0 "Current-setting resistor terminals. These terminals are connected to an external resistance to set the internal operating currents and cable driver output currents. A resistance of 6. [see datasheet]", 119 R1 "Current-setting resistor terminals. These terminals are connected to an external resistance to set the internal operating currents and cable driver output currents. A resistance of 6. [see datasheet]"
part E pins: 1 AVDD (power) "Analog circuit power terminals. A parallel combination of high frequency decoupling capacitors near each terminal is suggested, such as 0.1 uF and 0.001 uF. [see datasheet]", 2 AVDD (power) "Analog circuit power terminals. A parallel combination of high frequency decoupling capacitors near each terminal is suggested, such as 0.1 uF and 0.001 uF. [see datasheet]", 7 PLLVDD (power) "PLL circuit power terminal. A parallel combination of high frequency decoupling capacitors near the terminal is suggested, such as 0.1 uF and 0.001 uF. [see datasheet]", 8 PLLGND (power) "PLL circuit ground terminal. This terminal must be tied to the low-impedance circuit board ground plane", 15 DVDD (power) "Digital circuit power terminals. A parallel combination of high frequency decoupling capacitors near each DVDD terminal is suggested, such as 0.1 uF and 0.001 uF. [see datasheet]", 17 DGND (power) "Digital circuit ground terminals. These terminals must be tied together to the low-impedance circuit board ground plane", 20 VDDP (power) "PCI signaling clamp voltage power input. PCI signals are clamped per the PCI Local Bus Specification. In addition, if a 5-V ROM is used, the VDDP must be connected to 5 V", 23 DGND (power) "Digital circuit ground terminals. These terminals must be tied together to the low-impedance circuit board ground plane", 27 DVDD (power) "Digital circuit power terminals. A parallel combination of high frequency decoupling capacitors near each DVDD terminal is suggested, such as 0.1 uF and 0.001 uF. [see datasheet]", 30 REG18 (power) "REG18. 1.8-V power supply for the device core. If the internal voltage regulator is enabled (R\E\G\_\E\N\ is tied low), these terminals must be left unconnected. [see datasheet]", 33 DGND (power) "Digital circuit ground terminals. These terminals must be tied together to the low-impedance circuit board ground plane", 35 VDDP (power) "PCI signaling clamp voltage power input. PCI signals are clamped per the PCI Local Bus Specification. In addition, if a 5-V ROM is used, the VDDP must be connected to 5 V", 39 DVDD (power) "Digital circuit power terminals. A parallel combination of high frequency decoupling capacitors near each DVDD terminal is suggested, such as 0.1 uF and 0.001 uF. [see datasheet]", 44 DGND (power) "Digital circuit ground terminals. These terminals must be tied together to the low-impedance circuit board ground plane", 48 VDDP (power) "PCI signaling clamp voltage power input. PCI signals are clamped per the PCI Local Bus Specification. In addition, if a 5-V ROM is used, the VDDP must be connected to 5 V", 51 DVDD (power) "Digital circuit power terminals. A parallel combination of high frequency decoupling capacitors near each DVDD terminal is suggested, such as 0.1 uF and 0.001 uF. [see datasheet]", 55 DGND (power) "Digital circuit ground terminals. These terminals must be tied together to the low-impedance circuit board ground plane", 59 DVDD (power) "Digital circuit power terminals. A parallel combination of high frequency decoupling capacitors near each DVDD terminal is suggested, such as 0.1 uF and 0.001 uF. [see datasheet]", 62 VDDP (power) "PCI signaling clamp voltage power input. PCI signals are clamped per the PCI Local BusSpecification. In addition, if a 5-V ROM is used, the VDDP must be connected to 5 V", 64 DGND (power) "Digital circuit ground terminals. These terminals must be tied together to the low-impedance circuit board ground plane", 68 DGND (power) "Digital circuit ground terminals. These terminals must be tied together to the low-impedancecircuit board ground plane", 72 DVDD (power) "Digital circuit power terminals. A parallel combination of high frequency decoupling capacitors near each DVDD terminal is suggested, such as 0.1 uF and 0.001 uF. [see datasheet]", 75 DGND (power) "Digital circuit ground terminals. These terminals must be tied together to the low-impedance circuit board ground plane.", 78 VDDP (power) "PCI signaling clamp voltage power input. PCI signals are clamped per the PCI Local BusSpecification. In addition, if a 5-V ROM is used, the VDDP must be connected to 5 V", 83 DGND (power) "Digital circuit ground terminals. These terminals must be tied together to the low-impedance circuit board ground plane", 88 DVDD (power) "Digital circuit power terminals. A parallel combination of high frequency decoupling capacitors near each DVDD terminal is suggested, such as 0.1 uF and 0.001 uF. [see datasheet]", 93 REG18 (power) "REG18. 1.8-V power supply for the device core. If the internal voltage regulator is enabled (R\E\G\_\E\N\ is tied low), these terminals must be left unconnected. [see datasheet]", 100 DVDD (power) "Digital circuit power terminals. A parallel combination of high frequency decoupling capacitors near each DVDD terminal is suggested, such as 0.1 uF and 0.001 uF. [see datasheet]", 103 DGND (power) "Digital circuit ground terminals. These terminals must be tied together to the low-impedance circuit board ground plane", 107 AVDD (power) "Analog circuit power terminals. A parallel combination of high frequency decoupling capacitors near each terminal is suggested, such as 0.1 uF and 0.001 uF. [see datasheet]", 108 AVDD (power) "Analog circuit power terminals. A parallel combination of high frequency decoupling capacitors near each terminal is suggested, such as 0.1 uF and 0.001 uF. [see datasheet]", 109 AGND (power) "Analog circuit ground terminals. These terminals must be tied together to the low-impedance circuit board ground plane", 110 AGND (power) "Analog circuit ground terminals. These terminals must be tied together to the low-impedance circuit board ground plane", 111 AGND (power) "Analog circuit ground terminals. These terminals must be tied together to the low-impedance circuit board ground plane", 117 AGND (power) "Analog circuit ground terminals. These terminals must be tied together to the low-impedance circuit board ground plane", 120 AVDD (power) "Analog circuit power terminals. A parallel combination of high frequency decoupling capacitors near each terminal is suggested, such as 0.1 uF and 0.001 uF. [see datasheet]", 126 AGND (power) "Analog circuit ground terminals. These terminals must be tied together to the low-impedance circuit board ground plane", 127 AGND (power) "Analog circuit ground terminals. These terminals must be tied together to the low-impedance circuit board ground plane", 128 AGND (power) "Analog circuit ground terminals. These terminals must be tied together to the low-impedance circuit board ground plane"
part F pins: 121 NC, 122 NC, 123 NC, 124 NC, 125 NC